# EAGLE library part MCP4018T-104E/LT (library df4iah_dig-pot)
Digital POT
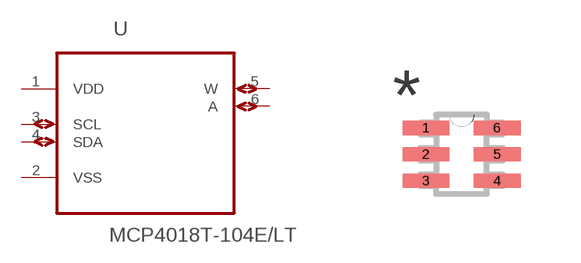
[diagram p0: symbol with the pads of SOT65P210X110-6N; footprint SOT65P210X110-6N]

Designator prefix -

## MCP4018T-104E/LT (MPN: MCP4018T-104E/LT; OC_FARNELL: 1825018; OC_NEWARK: 08R1802; PACKAGE: SOT-6; SUPPLIER: Microchip)  [SOT65P210X110-6N]
1  VDD  pwr
2  VSS  pwr
3  SCL
4  SDA
5  W
6  A

## Footprint SOT65P210X110-6N (pad centres in mm)
smd 1.168 x 0.356: 1 -0.889,0.66; 2 -0.889,0; 3 -0.889,-0.66; 4 0.889,-0.66; 5 0.889,0; 6 0.889,0.66